# Altium footprint library Murata 2220 X1-Y2 Capacitor.PcbLib: 1 footprints
Each footprint in its own frame and in the unit in brackets; x right, y up, seen from the top. Pads: shape width x height; smd on the part's side, far side on the other; paste and mask are expansions set on the pad; w line width, h text height; cw(c..) or ccw(c..) is an arc to the next point about the centre after c.
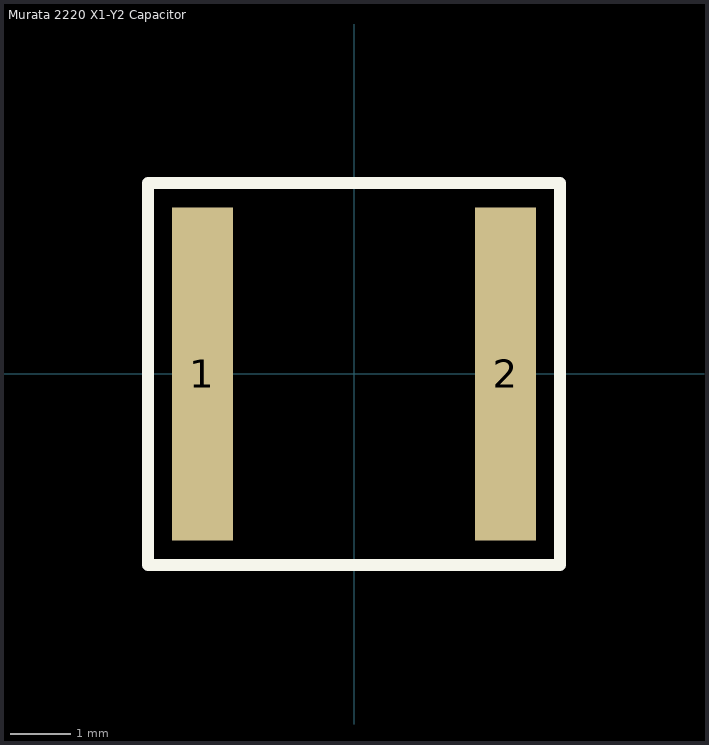
[diagram p0: the footprint, top view; thin cyan lines are the x and y axes]

## Murata 2220 X1-Y2 Capacitor [mm] "Digikey: 490-3482-1-ND / MFG: GA355DR7GF472KW01L"
height 2
pads (2):
  rect 1x5.5 smd: 1(-2.5,0) 2(2.5,0)
Top Overlay:
  lines w0.2: -3.4,-3.151 -3.4,3.151 3.401,3.151 3.401,-3.151 -3.4,-3.151
3D body: height 2, standoff 0, extent -2.525,-2.495 2.558,2.505
3D body: height 2, standoff 0, extent 2.558,-2.495 2.858,2.505
3D body: height 2, standoff 0, extent -2.842,-2.495 -2.525,2.505